# EAGLE library part 750316326 (library WE-OLTI)
WE-OLTI Offline Flyback Transformers Characteristics Nominal input voltage: 85–265 VAC (120–375 VDC) Small size Low leakage inductance Multiple-output options Operating temperature: −40 °C to +125 °C Isolation Voltage: 2 kVAC to 5 kVAC Options for fixed frequency or quasi-resonant mode operation Most products meet reinforced insulation Applications Industrial controls USB chargers Utility metering devices Process controls Factory automation Security systems Garage door opener auxiliary supplies Home appliances Especially designed for several ICs from Texas Instruments <https://www.we-online.com/components/media/o814034v209%20UtOLTI%20Group%20CGI.jpg> Details see: www.we-online.com/en/components/products/WE-OLTI <www.we-online.com/catalog/WE-OLTI/?utm_source=eagle_model&utm_medium=description_link&utm_campaign=eisos_eagle> Created by Ella Wu 2025-02-06 2025 (C) Wurth Elektronik
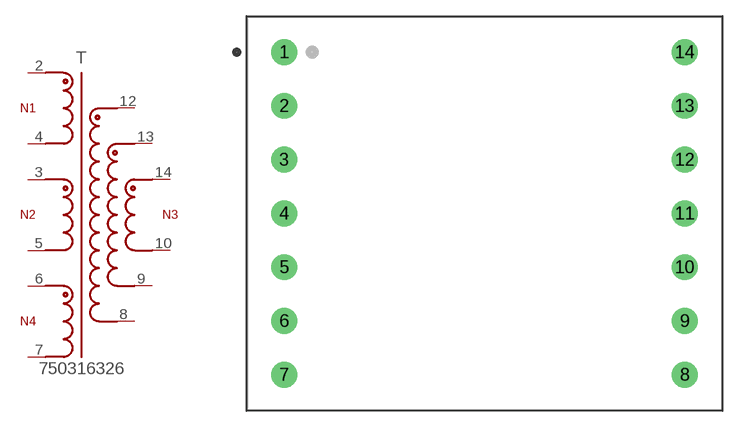
[diagram p29: symbol with the pads of WE-OLTI_ERL35_L36.5W44H28.5; footprint WE-OLTI_ERL35_L36.5W44H28.5]

Designator prefix T

## 750316326 (DATASHEET-URL: https://www.we-online.com/redexpert/spec/750316326?ae; FSWITCH: 120kHz; HEIGHT: 28.5mm; IOUT1: 6000mA; ISAT: 7.5A; L: 250uH; LENGTH: 36.5mm; MOUNT: THT; N: 4:1:0.5; PART-NUMBER: 750316326; SIZE: ERL35; VALUE: 250uH; VAUX: 12V; VIN: 85 - 265 V (AC); VOUT1: 27V; VT: 3600V(AC); WIDTH: 44mm)  [WE-OLTI_ERL35_L36.5W44H28.5]
2  2  pas
3  3  pas
4  4  pas
5  5  pas
6  6  pas
7  7  pas
8  8  pas
9  9  pas
10  10  pas
12  12  pas
13  13  pas
14  14  pas

## Footprint WE-OLTI_ERL35_L36.5W44H28.5 (pad centres in mm)
WE-OLTI Offline Flyback Transformers Size: ERL35,THT,14pins LXWXH=36.5X44X28.5mm Bobbin: 070-5783
drill 1.6: 1 -18.6,15; 2 -18.6,10; 3 -18.6,5; 4 -18.6,0; 5 -18.6,-5; 6 -18.6,-10; 7 -18.6,-15; 8 18.6,-15; 9 18.6,-10; 10 18.6,-5; 11 18.6,0; 12 18.6,5; 13 18.6,10; 14 18.6,15